# EAGLE library part CM16U (library IC)
IZone 1.3M Fix Focus Cubic Sensor
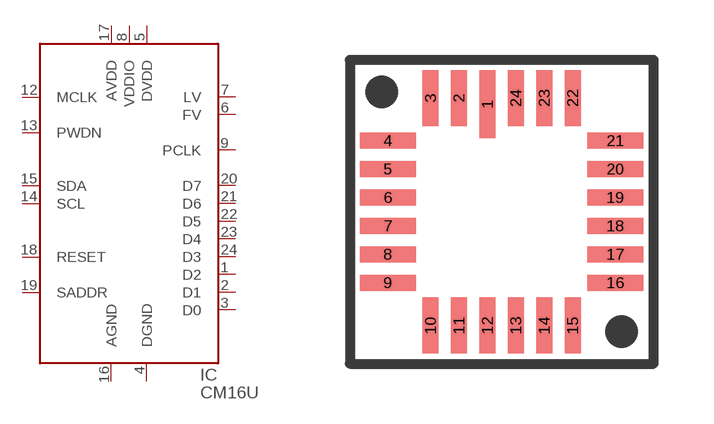
[diagram p176: symbol with the pads of CM16U; footprint CM16U]

Designator prefix IC

## CM16U  [CM16U]
1  D2
2  D1
3  D0
4  DGND  pwr
5  DVDD  pwr
6  FV
7  LV
8  VDDIO  pwr
9  PCLK
12  MCLK
13  PWDN
14  SCL
15  SDA
16  AGND  pwr
17  AVDD  pwr
18  RESET
19  SADDR
20  D7
21  D6
22  D5
23  D4
24  D3

## Footprint CM16U (pad centres in mm)
Package for IZone CM16U camera
smd 0.4 x 1.7: 1 -0.356,2.695
smd 0.4 x 1.4: 2 -1.067,2.845; 3 -1.778,2.845; 10 -1.778,-2.845; 11 -1.067,-2.845; 12 -0.356,-2.845; 13 0.356,-2.845; 14 1.067,-2.845; 15 1.778,-2.845; 22 1.778,2.845; 23 1.067,2.845; 24 0.356,2.845
smd 1.4 x 0.4: 4 -2.845,1.778; 5 -2.845,1.067; 6 -2.845,0.356; 7 -2.845,-0.356; 8 -2.845,-1.067; 9 -2.845,-1.778; 16 2.845,-1.778; 17 2.845,-1.067; 18 2.845,-0.356; 19 2.845,0.356; 20 2.845,1.067; 21 2.845,1.778